# EAGLE library part TLW-130-05-G-S (library SAMTEC-Txx_By_element14_Batch_1)
LOW PROFILE HEADER
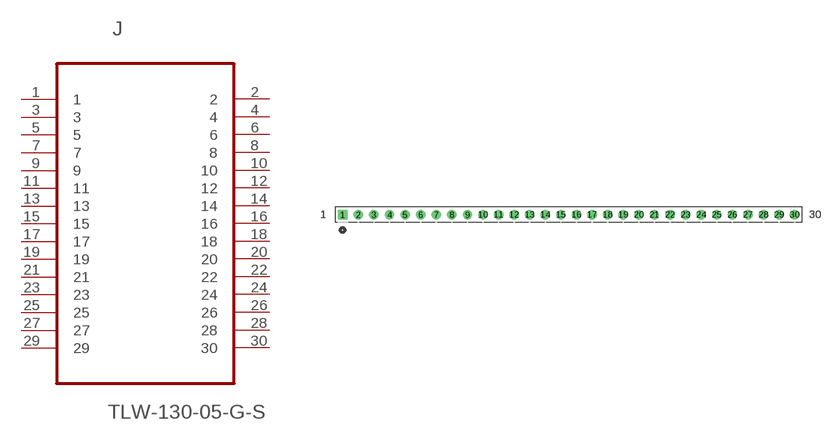
[diagram p333: symbol with the pads of SAMTEC_TLW-130-05-G-S; footprint SAMTEC_TLW-130-05-G-S]

Designator prefix J

## TLW-130-05-G-S (MPN: TLW-130-05-G-S; OC_FARNELL: -; OC_NEWARK: 12P0579; PACKAGE: LOW PROFILE HEADER, SINGLE ROW, 30 way; SUPPLIER: SAMTEC)  [SAMTEC_TLW-130-05-G-S]
1  1  pas
2  2  pas
3  3  pas
4  4  pas
5  5  pas
6  6  pas
7  7  pas
8  8  pas
9  9  pas
10  10  pas
11  11  pas
12  12  pas
13  13  pas
14  14  pas
15  15  pas
16  16  pas
17  17  pas
18  18  pas
19  19  pas
20  20  pas
21  21  pas
22  22  pas
23  23  pas
24  24  pas
25  25  pas
26  26  pas
27  27  pas
28  28  pas
29  29  pas
30  30  pas

## Footprint SAMTEC_TLW-130-05-G-S (pad centres in mm)
drill 1.016 square: 1 -73.66,0
drill 1.016: 2 -71.12,0; 3 -68.58,0; 4 -66.04,0; 5 -63.5,0; 6 -60.96,0; 7 -58.42,0; 8 -55.88,0; 9 -53.34,0; 10 -50.8,0; 11 -48.26,0; 12 -45.72,0; 13 -43.18,0; 14 -40.64,0; 15 -38.1,0; 16 -35.56,0; 17 -33.02,0; 18 -30.48,0; 19 -27.94,0; 20 -25.4,0; 21 -22.86,0; 22 -20.32,0; 23 -17.78,0; 24 -15.24,0; 25 -12.7,0; 26 -10.16,0; 27 -7.62,0; 28 -5.08,0; 29 -2.54,0; 30 0,0